# Altium footprint library 28Pins_Project_V1I1.PcbLib: 26 footprints (part 2 of 2)
Each footprint in its own frame and in the unit in brackets; x right, y up, seen from the top. Pads: shape width x height; smd on the part's side, far side on the other; paste and mask are expansions set on the pad; w line width, h text height; cw(c..) or ccw(c..) is an arc to the next point about the centre after c.
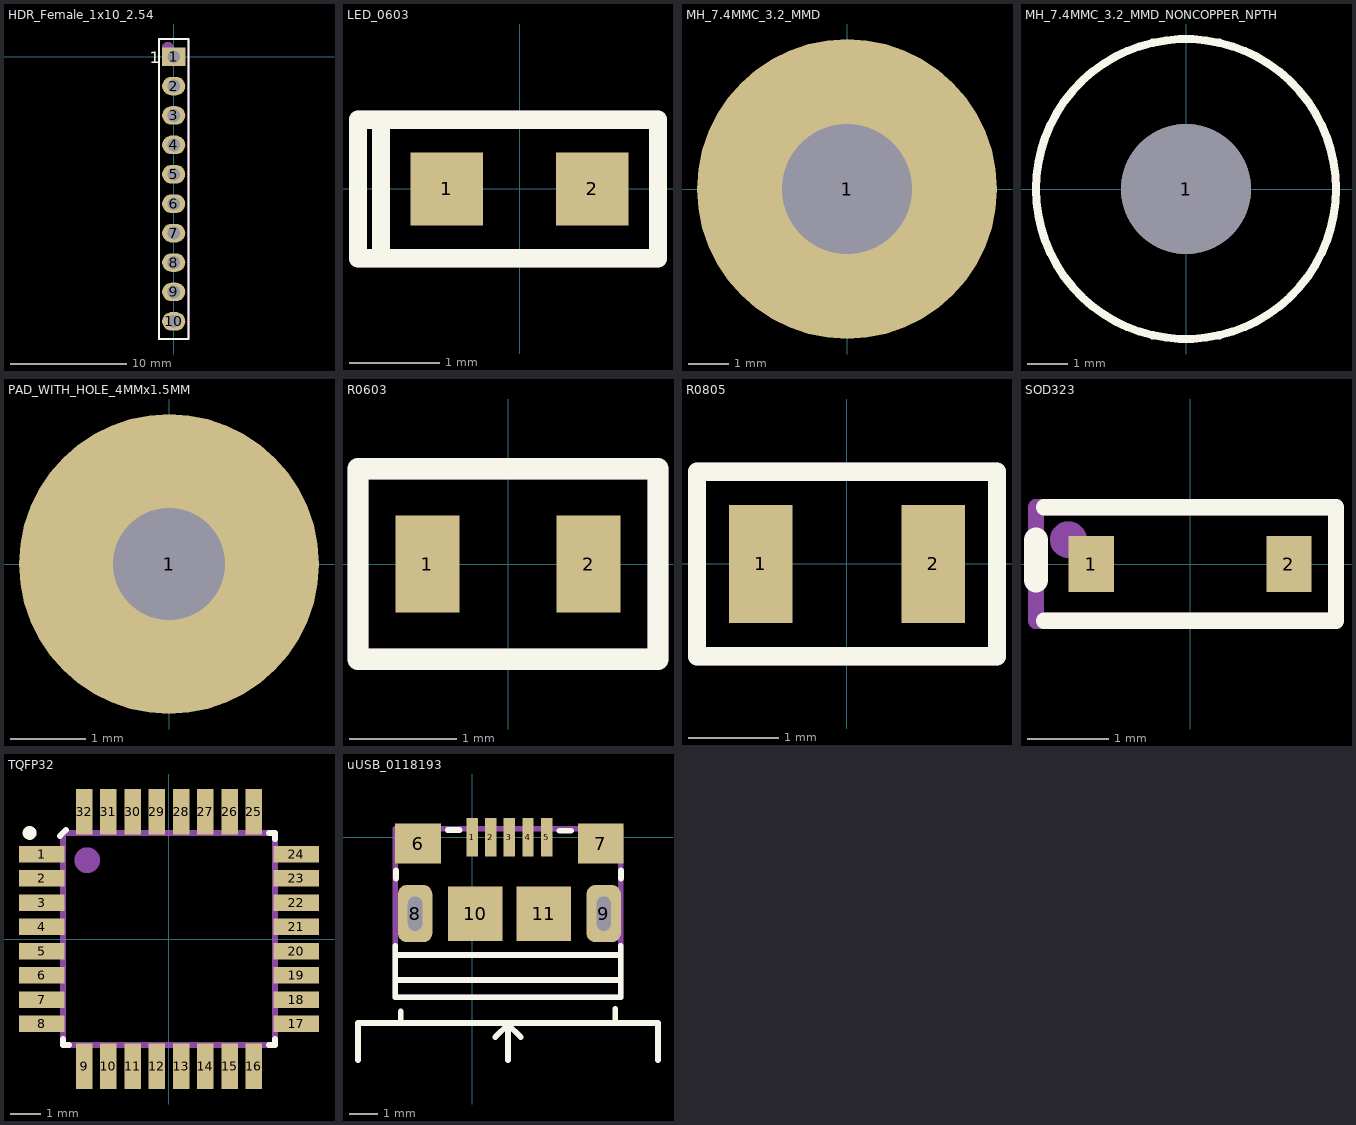
[diagram p1: the footprints below, top view; thin cyan lines are the x and y axes]

## HDR_Female_1x10_2.54 [mm]
pads (10):
  rect 2x1.6 hole 1.1: 1(0,0)
  oval 2x1.6 hole 1.1: 2(0,-2.54) 3(0,-5.08) 4(0,-7.62) 5(0,-10.16) 6(0,-12.7) 7(0,-15.24) 8(0,-17.78) 9(0,-20.32) 10(0,-22.86)
Top Overlay:
  lines w0.2: -1.27,-24.384 -1.27,1.524 1.27,1.524 1.27,-24.384 -1.27,-24.384
  text "1" at -2.086,-0.562 h1
ASM Top:
  circle w0.508: c-0.508,0.762 r0.254
  lines w0.2: -1.27,-24.384 -1.27,1.524 1.27,1.524 1.27,-24.384 -1.27,-24.384
  text ".Designator" at 0.423,-13.462 h1.02
3D body "m20-7821046_asm.stp": height 8.31, standoff -3.19, extent -1.25,-24.33 1.25,1.47

## LED_0603 [mm]
pads (2):
  rect 0.8x0.8 smd: 1(-0.8,0) 2(0.8,0)
Top Overlay:
  lines w0.2: -1.524,-0.762 -1.524,0.762 ; -1.524,-0.762 1.524,-0.762 1.524,0.762 -1.524,0.762 ; -1.524,-0.762 -1.778,-0.762 -1.778,0.762 -1.524,0.762
ASM Top:
  lines w0.2: -1.524,-0.762 -1.524,0.762 ; -1.778,-0.762 -1.778,0.762 1.524,0.762 1.524,-0.762 -1.778,-0.762
  text ".Designator" at -0.916,-0.208 h0.6
3D body: height 0.66, standoff 0.5, extent -0.254,-0.254 0.254,0.254
3D body "LED SMD 0603 super red.step": height 0.65, standoff 0, extent -0.85,-0.4 0.85,0.4

## MH_7.4MMC_3.2_MMD [mm]
pads (1):
  round 7.4 hole 3.2: 1(0,0)

## MH_7.4MMC_3.2_MMD_NONCOPPER_NPTH [mm] "pcb hole"
pads (1):
  round 3.2 hole 3.2 unplated: 1(0,0)
Top Overlay:
  circle w0.2: c0,0 r3.7

## PAD_WITH_HOLE_4MMx1.5MM [mm]
pads (1):
  round 4 hole 1.5: 1(0,0)

## R0603 [mm]
pads (2):
  rect 0.6x0.9 smd: 1(-0.75,0) 2(0.75,0)
Top Overlay:
  lines w0.2: -1.397,-0.889 -1.397,0.889 1.397,0.889 1.397,0.635 1.397,-0.889 0.699,-0.889 -0.699,-0.889 -1.397,-0.889
ASM Top:
  lines w0.2: -1.397,-0.889 1.397,-0.889 1.397,0.889 -1.397,0.889 -1.397,-0.889
  text ".Designator" at -0.916,-0.208 h0.6
3D body "varistor_R0603.step": height 0.81, standoff 0.01, extent -0.8,-0.406 0.8,0.434

## R0805 [mm]
pads (2):
  rect 0.7x1.3 smd: 1(-0.95,0) 2(0.95,0)
Top Overlay:
  lines w0.2: -1.651,-1.016 -1.651,1.016 1.651,1.016 1.651,-1.016 -1.651,-1.016
ASM Top:
  lines w0.2: -1.651,-1.016 -1.651,1.016 1.651,1.016 1.651,-1.016 -1.651,-1.016
  text ".Designator" at -0.916,-0.208 h0.6
3D body "RESC2012X70N.step": height 0.71, standoff 0.01, extent -1,-0.6 1,0.6

## SOD323 [mil]
pads (2):
  rect 22x27 smd: 1(-48,0) 2(48,0)
Top Overlay:
  lines w7.87: -70.87,-27.56 70.87,-27.56 70.87,27.56 -70.87,27.56
  lines w11.81: -74.8,-7.87 -74.8,11.81
ASM Top:
  circle w10: c-59.06,11.81 r3.94
  lines w7.87: -74.8,-27.56 70.87,-27.56 70.87,27.56 -74.8,27.56 -74.8,-27.56
  text ".Designator" at -30.51,-10.17 h19.68
3D body "diod-SOD323.step": height 39.48, standoff 0.5, extent -49.21,-24.6 49.22,24.61

## TQFP32 [mm]
pads (32):
  rect 1.5x0.55 smd mask+0.06: 1(-4.2,2.8) 2(-4.2,2) 3(-4.2,1.2) 4(-4.2,0.4) 5(-4.2,-0.4) 6(-4.2,-1.2) 7(-4.2,-2) 8(-4.2,-2.8) 17(4.2,-2.8) 18(4.2,-2) 19(4.2,-1.2) 20(4.2,-0.4) 21(4.2,0.4) 22(4.2,1.2) 23(4.2,2) 24(4.2,2.8)
  rect 0.55x1.5 smd mask+0.06: 9(-2.8,-4.2) 10(-2,-4.2) 11(-1.2,-4.2) 12(-0.4,-4.2) 13(0.4,-4.2) 14(1.2,-4.2) 15(2,-4.2) 16(2.8,-4.2) 25(2.8,4.2) 26(2,4.2) 27(1.2,4.2) 28(0.4,4.2) 29(-0.4,4.2) 30(-1.2,4.2) 31(-2,4.2) 32(-2.8,4.2)
Top Overlay:
  circle w0.254: c-4.6,3.5 r0.1
  lines w0.2: -3.6,3.4 -3.4,3.6 ; -3.5,-3.3 -3.5,-3.5 -3.3,-3.5 ; 3.3,-3.5 3.5,-3.5 3.5,-3.3 ; 3.3,3.5 3.5,3.5 3.5,3.3
ASM Top:
  circle w0.45: c-2.7,2.6 r0.2
  lines w0.2: -3.5,-3.5 -3.5,3.5 3.5,3.5 3.5,-3.5 -3.5,-3.5
  text ".Designator" at -2,-0.5 h1.8
3D body "User Library-TQFP32-1.step": height 1.1, standoff 0, extent -4.509,-4.508 4.509,4.509

## uUSB_0118193 [mm]
pads (11):
  rect 0.4x1.35 smd mask+0.05: 1(0,0) 2(0.65,0) 3(1.3,0) 4(1.95,0) 5(2.6,0)
  rect 1.6x1.4 smd: 6(-1.9,-0.225) 7(4.5,-0.225)
  rrect50% 1.2x2 / inner oval 0.9x1.6 / far side oval 0.9x1.6 hole 0.5 slot 1.2 at 90 deg: 8(-2,-2.675)
  rrect50% 1.2x2 hole 0.5 slot 1.2 at 90 deg: 9(4.6,-2.675)
  rect 1.9x1.9 smd: 10(0.1,-2.675) 11(2.5,-2.675)
Top Overlay:
  lines w0.2: -4,-7.8 -4,-6.5 6.5,-6.5 6.5,-7.8 ; -2.7,-5 5.2,-5 ; -2.7,-4.125 5.2,-4.125 ; -2.7,-3.8 -2.7,-5.6 5.2,-5.6 5.2,-3.8 ; -2.667,-1.448 -2.667,-1.168 ; -2.5,-6.4 -2.5,-6.1 ; -0.864,0.254 -0.45,0.25 ; 0.8,-7 1.25,-6.55 ; 1.25,-7.8 1.25,-6.5 1.25,-6.55 ; 1.25,-6.525 1.25,-6.55 ; 1.7,-7 1.25,-6.55 ; 3.05,0.225 3.454,0.229 ; 5,-6.5 5,-6 ; 5.207,-1.448 5.207,-1.168
ASM Top:
  lines w0.2: -2.7,-5.6 -2.7,0.3 5.2,0.3 5.2,-5.6 -2.7,-5.6
  text ".Designator" at -0.7,-2.967 h1
3D body "uUSB_10118193-0001lfc.stp": height 2.88, standoff -0.92, extent -2.658,-5.554 5.198,0.229